# Altium footprint library JTAG.PcbLib: 8 footprints
Each footprint in its own frame and in the unit in brackets; x right, y up, seen from the top. Pads: shape width x height; smd on the part's side, far side on the other; paste and mask are expansions set on the pad; w line width, h text height; cw(c..) or ccw(c..) is an arc to the next point about the centre after c.
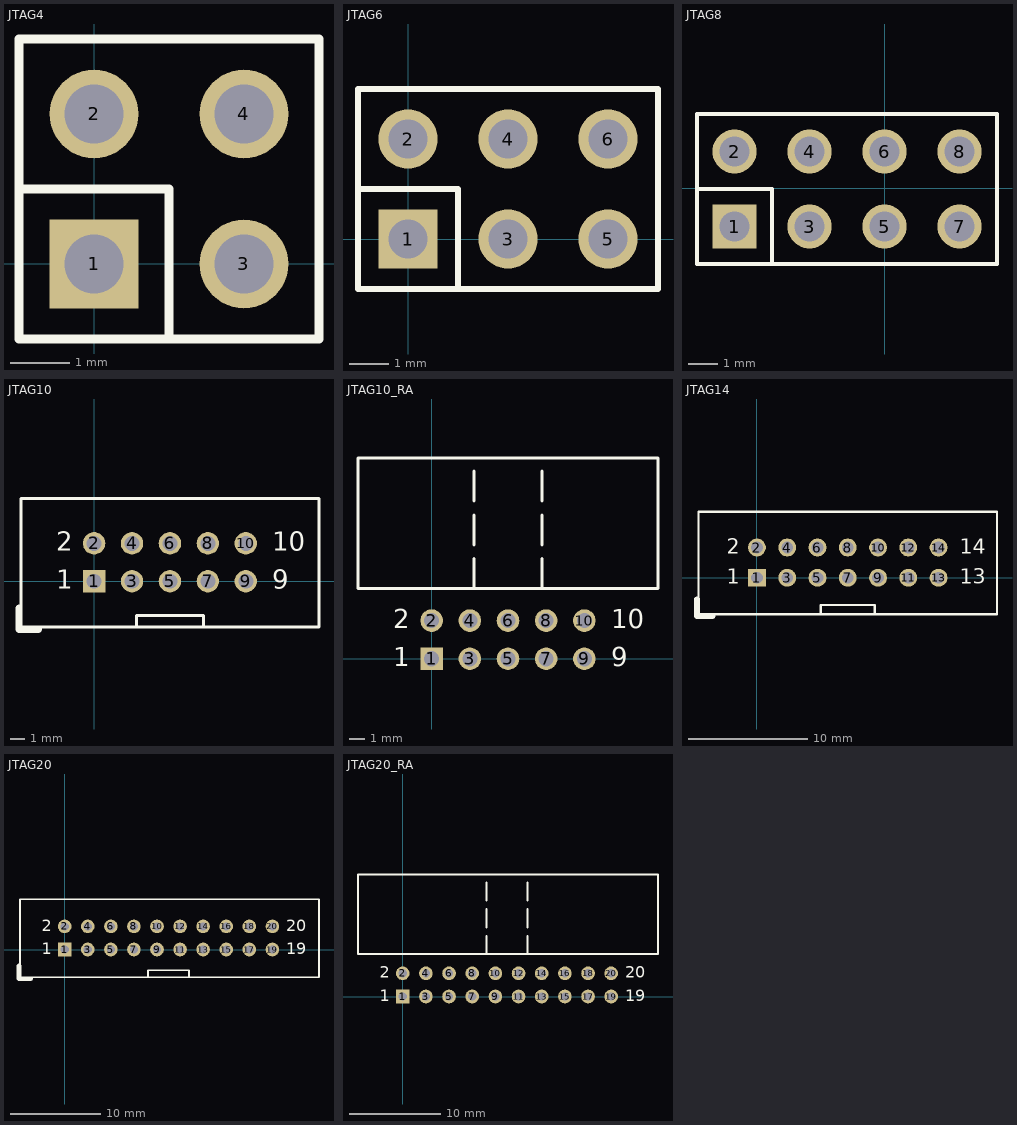
[diagram p0: the footprints below, top view; thin cyan lines are the x and y axes]

## JTAG4 [mm]
pads (4):
  rect 1.5x1.5 hole 1: 1(0,0)
  round 1.5 hole 1: 2(0,2.54) 3(2.54,0) 4(2.54,2.54)
Top Overlay:
  lines w0.15: -1.27,1.27 1.27,1.27 1.27,-1.27 ; -1.27,-1.27 3.81,-1.27 3.81,3.81 -1.27,3.81 -1.27,-1.27
3D body "User Library-PLD-4.step": height 8.54, standoff -3, extent -1.27,-1.27 3.81,3.81

## JTAG6 [mm]
pads (6):
  rect 1.5x1.5 hole 1: 1(0,0)
  round 1.5 hole 1: 2(0,2.54) 3(2.54,0) 4(2.54,2.54) 5(5.08,0) 6(5.08,2.54)
Top Overlay:
  lines w0.15: -1.27,1.27 1.27,1.27 1.27,-1.27 ; -1.27,-1.27 6.35,-1.27 6.35,3.81 -1.27,3.81 -1.27,-1.27
3D body "User Library-PLD-6.step": height 8.4, standoff -3, extent -1.27,-1.23 6.35,3.77

## JTAG8 [mm]
pads (8):
  rect 1.5x1.5 hole 1: 1(-5.084,-1.29)
  round 1.5 hole 1: 2(-5.084,1.25) 3(-2.544,-1.29) 4(-2.544,1.25) 5(-0.004,-1.29) 6(-0.004,1.25) 7(2.536,-1.29) 8(2.536,1.25)
Top Overlay:
  lines w0.15: -6.354,-0.02 -3.814,-0.02 -3.814,-2.56 ; -6.354,-2.56 -6.354,2.52 3.806,2.52 3.806,-2.56 -6.354,-2.56
3D body "User Library-PLD-xx.step": height 8.4, standoff -3, extent -6.354,-2.52 3.806,2.48

## JTAG10 [mm]
pads (10):
  rect 1.5x1.5 hole 1: 1(0,0)
  round 1.5 hole 1: 2(0,2.54) 3(2.54,0) 4(2.54,2.54) 5(5.08,0) 6(5.08,2.54) 7(7.62,0) 8(7.62,2.54) 9(10.16,0) 10(10.16,2.54)
Top Overlay:
  lines w0.2: 2.83,-3.048 2.83,-2.286 7.33,-2.286 7.33,-3.048 ; -4.902,-3.048 15.062,-3.048 15.062,5.537 -4.902,5.537 -4.902,-3.048
  lines w0.5: -5.029,-1.803 -5.029,-3.226 -3.734,-3.226
  text "1" at -2.54,-0.508 h1.27
  text "2" at -2.54,2.032 h1.27
  text "9" at 11.938,-0.508 h1.27
  text "10" at 11.938,2.032 h1.27
3D body "User Library-BH-10___64.step": height 9.19, standoff -2.95, extent -5.1,-3.123 15.26,6.077

## JTAG10_RA [mm] "Right angle"
pads (10):
  rect 1.5x1.5 hole 1: 1(0,0)
  round 1.5 hole 1: 2(0,2.54) 3(2.54,0) 4(2.54,2.54) 5(5.08,0) 6(5.08,2.54) 7(7.62,0) 8(7.62,2.54) 9(10.16,0) 10(10.16,2.54)
Top Overlay:
  lines w0.2: 2.83,4.66 2.83,6.66 ; 2.83,4.826 2.83,5.588 ; 2.83,7.581 2.83,9.581 ; 2.83,10.502 2.83,12.502 ; 7.33,4.66 7.33,6.66 ; 7.33,4.826 7.33,5.588 ; 7.33,7.581 7.33,9.581 ; 7.33,10.502 7.33,12.502 ; -4.902,4.66 -4.902,13.36 15.062,13.36 15.062,4.66 -4.902,4.66
  text "10" at 11.938,2.032 h1.27
  text "9" at 11.938,-0.508 h1.27
  text "2" at -2.54,2.032 h1.27
  text "1" at -2.54,-0.508 h1.27
3D body "User Library-SLS-010-R920-01.step": height 9.11, standoff -3, extent -5.1,-0.317 15.26,13.543

## JTAG14 [mm]
pads (14):
  rect 1.5x1.5 hole 1: 1(0,0)
  round 1.5 hole 1: 2(0,2.54) 3(2.54,0) 4(2.54,2.54) 5(5.08,0) 6(5.08,2.54) 7(7.62,0) 8(7.62,2.54) 9(10.16,0) 10(10.16,2.54) 11(12.7,0) 12(12.7,2.54) 13(15.24,0) 14(15.24,2.54)
Top Overlay:
  lines w0.2: 5.37,-3.048 5.37,-2.286 9.87,-2.286 9.87,-3.048 ; -4.902,-3.048 -4.902,5.537 20.142,5.537 20.142,-3.048 -4.902,-3.048
  lines w0.5: -5.029,-1.803 -5.029,-3.226 -3.734,-3.226
  text "14" at 17.018,2.032 h1.27
  text "13" at 17.018,-0.508 h1.27
  text "2" at -2.54,2.032 h1.27
  text "1" at -2.54,-0.508 h1.27
3D body "User Library-SLS-014-S920-01.step": height 9.1, standoff -3.2, extent -5.1,-3.175 20.34,5.935

## JTAG20 [mm]
pads (20):
  rect 1.5x1.5 hole 0.9: 1(0,0)
  round 1.5 hole 0.9: 2(0,2.54) 3(2.54,0) 4(2.54,2.54) 5(5.08,0) 6(5.08,2.54) 7(7.62,0) 8(7.62,2.54) 9(10.16,0) 10(10.16,2.54) 11(12.7,0) 12(12.7,2.54) 13(15.24,0) 14(15.24,2.54) 15(17.78,0) 16(17.78,2.54) 17(20.32,0) 18(20.32,2.54) 19(22.86,0) 20(22.86,2.54)
Top Overlay:
  lines w0.2: 9.18,-3.048 9.18,-2.286 13.68,-2.286 13.68,-3.048 ; -4.902,-3.048 -4.902,5.537 27.991,5.537 27.991,-3.048 -4.902,-3.048
  lines w0.5: -5.029,-1.803 -5.029,-3.226 -3.734,-3.226
  text "20" at 24.384,2.032 h1.27
  text "19" at 24.384,-0.508 h1.27
  text "1" at -2.54,-0.508 h1.27
  text "2" at -2.54,2.032 h1.27
3D body "SW3dPS-PinBox Connector_20Pin.STEP": height 10.9, standoff -3, extent -5.009,-3.181 27.991,5.619

## JTAG20_RA [mm] "Right angle"
pads (20):
  rect 1.5x1.5 hole 0.9: 1(0,0)
  round 1.5 hole 0.9: 2(0,2.54) 3(2.54,0) 4(2.54,2.54) 5(5.08,0) 6(5.08,2.54) 7(7.62,0) 8(7.62,2.54) 9(10.16,0) 10(10.16,2.54) 11(12.7,0) 12(12.7,2.54) 13(15.24,0) 14(15.24,2.54) 15(17.78,0) 16(17.78,2.54) 17(20.32,0) 18(20.32,2.54) 19(22.86,0) 20(22.86,2.54)
Top Overlay:
  lines w0.2: 9.18,4.66 9.18,6.66 ; 9.18,7.581 9.18,9.581 ; 9.18,10.502 9.18,12.502 ; 13.68,4.66 13.68,6.66 ; 13.68,7.581 13.68,9.581 ; 13.68,10.502 13.68,12.502 ; -4.902,4.66 27.991,4.66 27.991,13.36 -4.902,13.36 -4.902,4.66
  text "2" at -2.54,2.032 h1.27
  text "1" at -2.54,-0.508 h1.27
  text "19" at 24.384,-0.508 h1.27
  text "20" at 24.384,2.032 h1.27
3D body "User Library-SLS-020-R920-01.step": height 9.11, standoff -3, extent -5.1,-0.317 27.96,13.543